# EAGLE library part 25LC256 (library microchip)
IC EEPROM 256KBIT
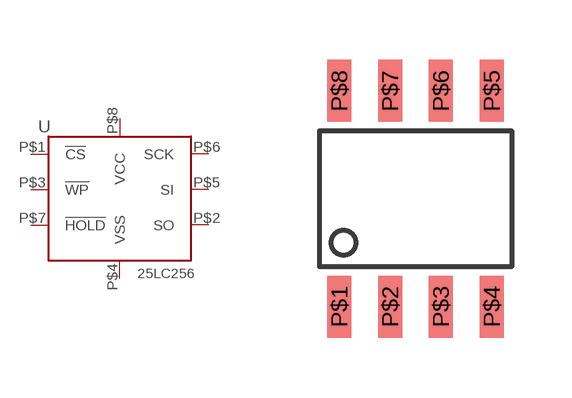
[diagram p4: symbol with the pads of SOIC-8SN; footprint SOIC-8SN]

Designator prefix U

## 25LC256150C (DIGIKEY: 25LC256-H/SN-ND; P1I: o)  [SOIC-8SN]
P$1  !CS
P$2  SO
P$3  !WP
P$4  VSS
P$5  SI
P$6  SCK
P$7  !HOLD
P$8  VCC

## Footprint SOIC-8SN (pad centres in mm)
smd 0.6 x 1.55: P$1 -1.905,-2.7; P$2 -0.635,-2.7; P$3 0.635,-2.7; P$4 1.905,-2.7; P$5 1.905,2.7; P$6 0.635,2.7; P$7 -0.635,2.7; P$8 -1.905,2.7